# Altium schematic symbol library Mainboard.SchLib: 1 symbol
Pins are listed as number, name and electrical type; pins without a type are passive.

## Component_1
designator *  (value not drawn)